# EAGLE library part T201MH9V3BE (library SW-SP3T-toggle-switch-TH)
Toggle Switches ON ON ON SPDT Source: Datasheet <https://www.ckswitches.com/media/1391/ttoggle.pdf>
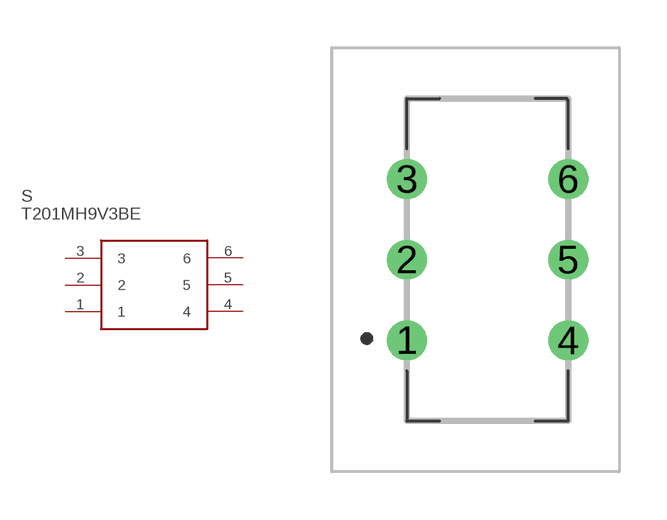
[diagram p0: symbol with the pads of T201MH9V3BE; footprint T201MH9V3BE]

Designator prefix S

## T201MH9V3BE (DESCRIPTION: Toggle Switches ON None ON DPDT 20VAC 20VDC 0.4W; HEIGHT: 20mm; MFR: C & K COMPONENTS; MPN: T211SY9CQE; VALUE: T211SY9CKE)  [T201MH9V3BE]
1  1
2  2
3  3
4  4
5  5
6  6

## Footprint T201MH9V3BE (pad centres in mm)
T211SY9CQE
drill 0.75 pad 1.2: 1 -2.54,-2.54; 2 -2.54,0; 3 -2.54,2.54; 4 2.54,-2.54; 5 2.54,0; 6 2.54,2.54